# Altium footprint library SON50P200X300X80-8N.PcbLib: 1 footprints
Each footprint in its own frame and in the unit in brackets; x right, y up, seen from the top. Pads: shape width x height; smd on the part's side, far side on the other; paste and mask are expansions set on the pad; w line width, h text height; cw(c..) or ccw(c..) is an arc to the next point about the centre after c.
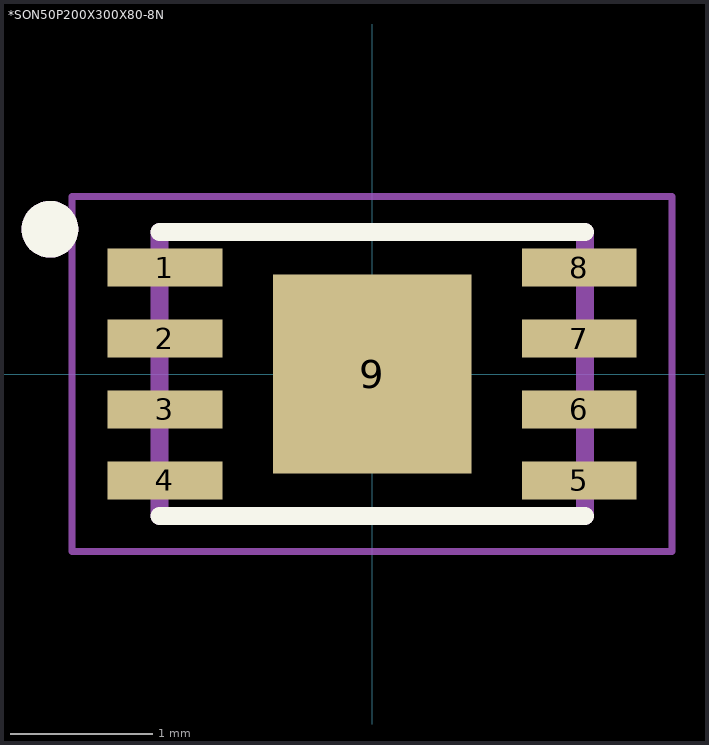
[diagram p0: the footprint, top view; thin cyan lines are the x and y axes]

## *SON50P200X300X80-8N [mm]
pads (9):
  rect 0.81x0.27 smd: 1(-1.46,0.75) 2(-1.46,0.25) 3(-1.46,-0.25) 4(-1.46,-0.75) 5(1.46,-0.75) 6(1.46,-0.25) 7(1.46,0.25) 8(1.46,0.75)
  rect 1.4x1.4 smd: 9(0,0)
Top Overlay:
  circle w0.2: c-2.27,1.02 r0.1
  lines w0.127: -1.5,-1 1.5,-1 ; -1.5,1 1.5,1
Top Paste:
  region: -0.499,0.44 0.44,0.44 0.44,-0.499 -0.499,-0.499
Mechanical 13:
  circle w0.2: c-2.27,1.02 r0.1
  circle w0.2: c-2.27,1.02 r0.1
  lines w0.127: -1.5,-1 -1.5,1 ; -1.5,-1 1.5,-1 ; -1.5,-1 -1.5,1 ; -1.5,-1 1.5,-1 ; -1.5,1 1.5,1 ; -1.5,1 1.5,1 ; 1.5,-1 1.5,1 ; 1.5,-1 1.5,1
Mechanical 15:
  lines w0.05: -2.115,-1.25 -2.115,1.25 2.115,1.25 2.115,-1.25 -2.115,-1.25